# EAGLE library part HI7190IBZ (library Intersil_By_element14_Batch_1)
24-Bit, High Precision, Sigma Delta A/D Converter
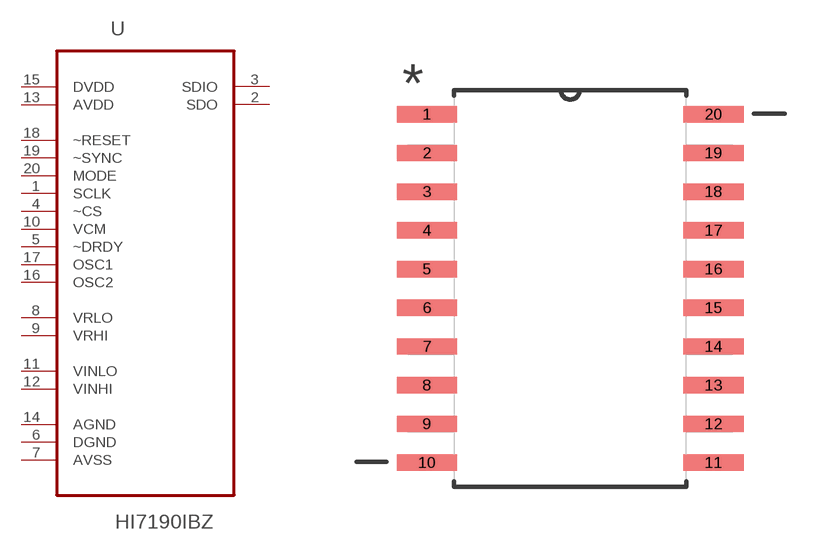
[diagram p132: symbol with the pads of SOIC127P1032X265-20N; footprint SOIC127P1032X265-20N]

Designator prefix U

## HI7190IBZ (MPN: HI7190IBZ; OC_FARNELL: 1562045; OC_NEWARK: 57K3852; PACKAGE: SOIC-20; SUPPLIER: Intersil)  [SOIC127P1032X265-20N]
1  SCLK  in
2  SDO  out
3  SDIO  out
4  ~CS  in
5  ~DRDY  in
6  DGND  in
7  AVSS  in
8  VRLO  in
9  VRHI  in
10  VCM  in
11  VINLO  in
12  VINHI  in
13  AVDD  in
14  AGND  in
15  DVDD  in
16  OSC2  in
17  OSC1  in
18  ~RESET  in
19  ~SYNC  in
20  MODE  in

## Footprint SOIC127P1032X265-20N (pad centres in mm)
smd 1.981 x 0.533: 1 -4.699,5.715; 2 -4.699,4.445; 3 -4.699,3.175; 4 -4.699,1.905; 5 -4.699,0.635; 6 -4.699,-0.635; 7 -4.699,-1.905; 8 -4.699,-3.175; 9 -4.699,-4.445; 10 -4.699,-5.715; 11 4.699,-5.715; 12 4.699,-4.445; 13 4.699,-3.175; 14 4.699,-1.905; 15 4.699,-0.635; 16 4.699,0.635; 17 4.699,1.905; 18 4.699,3.175; 19 4.699,4.445; 20 4.699,5.715